# Altium footprint library CGA2B3X7R1V104K050BB.PcbLib: 1 footprints
Each footprint in its own frame and in the unit in brackets; x right, y up, seen from the top. Pads: shape width x height; smd on the part's side, far side on the other; paste and mask are expansions set on the pad; w line width, h text height; cw(c..) or ccw(c..) is an arc to the next point about the centre after c.
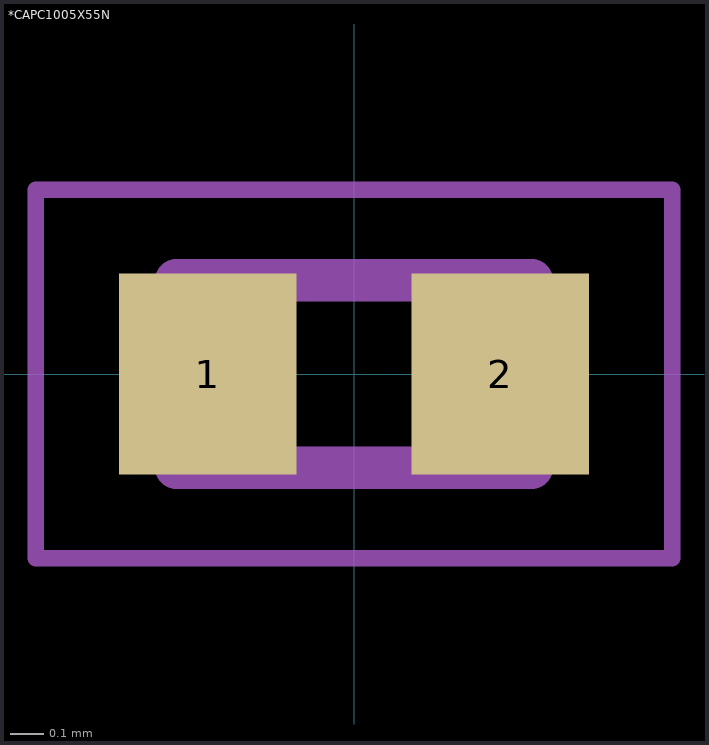
[diagram p0: the footprint, top view; thin cyan lines are the x and y axes]

## *CAPC1005X55N [mm]
pads (2):
  rect 0.53x0.6 smd: 1(-0.437,0) 2(0.437,0)
Mechanical 4:
  lines w0.127: -0.53,-0.28 0.53,-0.28 ; -0.53,-0.28 -0.53,0.28 ; -0.53,-0.28 0.53,-0.28 ; -0.53,-0.28 -0.53,0.28 ; -0.53,0.28 0.53,0.28 ; -0.53,0.28 0.53,0.28 ; 0.53,-0.28 0.53,0.28 ; 0.53,-0.28 0.53,0.28
Courtyard Bottom:
  lines w0.05: -0.95,-0.55 0.95,-0.55 0.95,0.55 -0.95,0.55 -0.95,-0.55
3D body: height 0.55, standoff 0, extent -0.5,-0.25 0.5,0.25